# EAGLE library part CLX6F-FKC (library seniorDesign)
Cree Inc. CLX6F-FKC-CNP1ST1E1BB7D3D3 6 pin RGB LED, independant anodes candidate 2, input card http://www.cree.com/led-components/media/documents/ds-CLX6F-FKC-1352.pdf
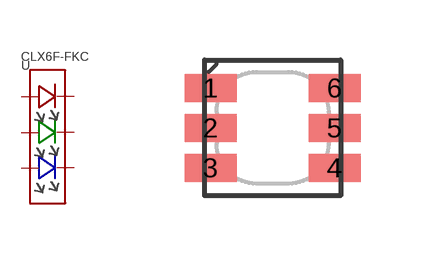
[diagram p7: symbol with the pads of CREE_6; footprint CREE_6]

Designator prefix -

## CLX6F-FKC  [CREE_6]
1  CA_B  out
2  CA_G  out
3  CA_R  out
4  AN_R  in
5  AN_G  in
6  AN_B  in

## Footprint CREE_6 (pad centres in mm)
smd 1.3 x 0.7: 1 -1.55,1; 2 -1.55,0; 3 -1.55,-1; 4 1.55,-1; 5 1.55,0; 6 1.55,1